# Altium schematic symbol library SnapEDAsch.SchLib: 1 symbol
Pins are listed as number, name and electrical type; pins without a type are passive.

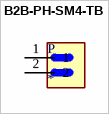
[diagram p0: symbol B2B-PH-SM4-TB]

## B2B-PH-SM4-TB
designator P
Connector Header Surface Mount 2 position 0.079 _2.00mm_; MP: B2B-PH-SM4-TB; MF: JST Sales; Value: *; SnapEDA_Link: https://www.snapeda.com/parts/B2B-PH-SM4-TB/JST%20Sales%20America%20Inc./view-part/473682/?ref=snap; Availability: Unavailable; Package: None; Price: None
footprint JST_B2B-PH-SM4-TB
pins: 1, 2